# EAGLE library part B9B-EH-A (library con-jst-eh)
HEADER
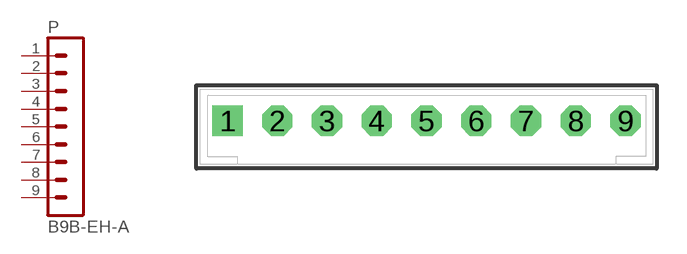
[diagram p3: symbol with the pads of B9B-EH-A; footprint B9B-EH-A]

Designator prefix P

## B9B-EH-A  [B9B-EH-A]
1  1  pas
2  2  pas
3  3  pas
4  4  pas
5  5  pas
6  6  pas
7  7  pas
8  8  pas
9  9  pas

## Footprint B9B-EH-A (pad centres in mm)
HEADER
drill 1.016 square: 1 -10,0
drill 1.016 octagon: 2 -7.5,0; 3 -5,0; 4 -2.5,0; 5 0,0; 6 2.5,0; 7 5,0; 8 7.5,0; 9 10,0